# Altium footprint library pins.PcbLib: 69 footprints (part 3 of 5)
Each footprint in its own frame and in the unit in brackets; x right, y up, seen from the top. Pads: shape width x height; smd on the part's side, far side on the other; paste and mask are expansions set on the pad; w line width, h text height; cw(c..) or ccw(c..) is an arc to the next point about the centre after c.
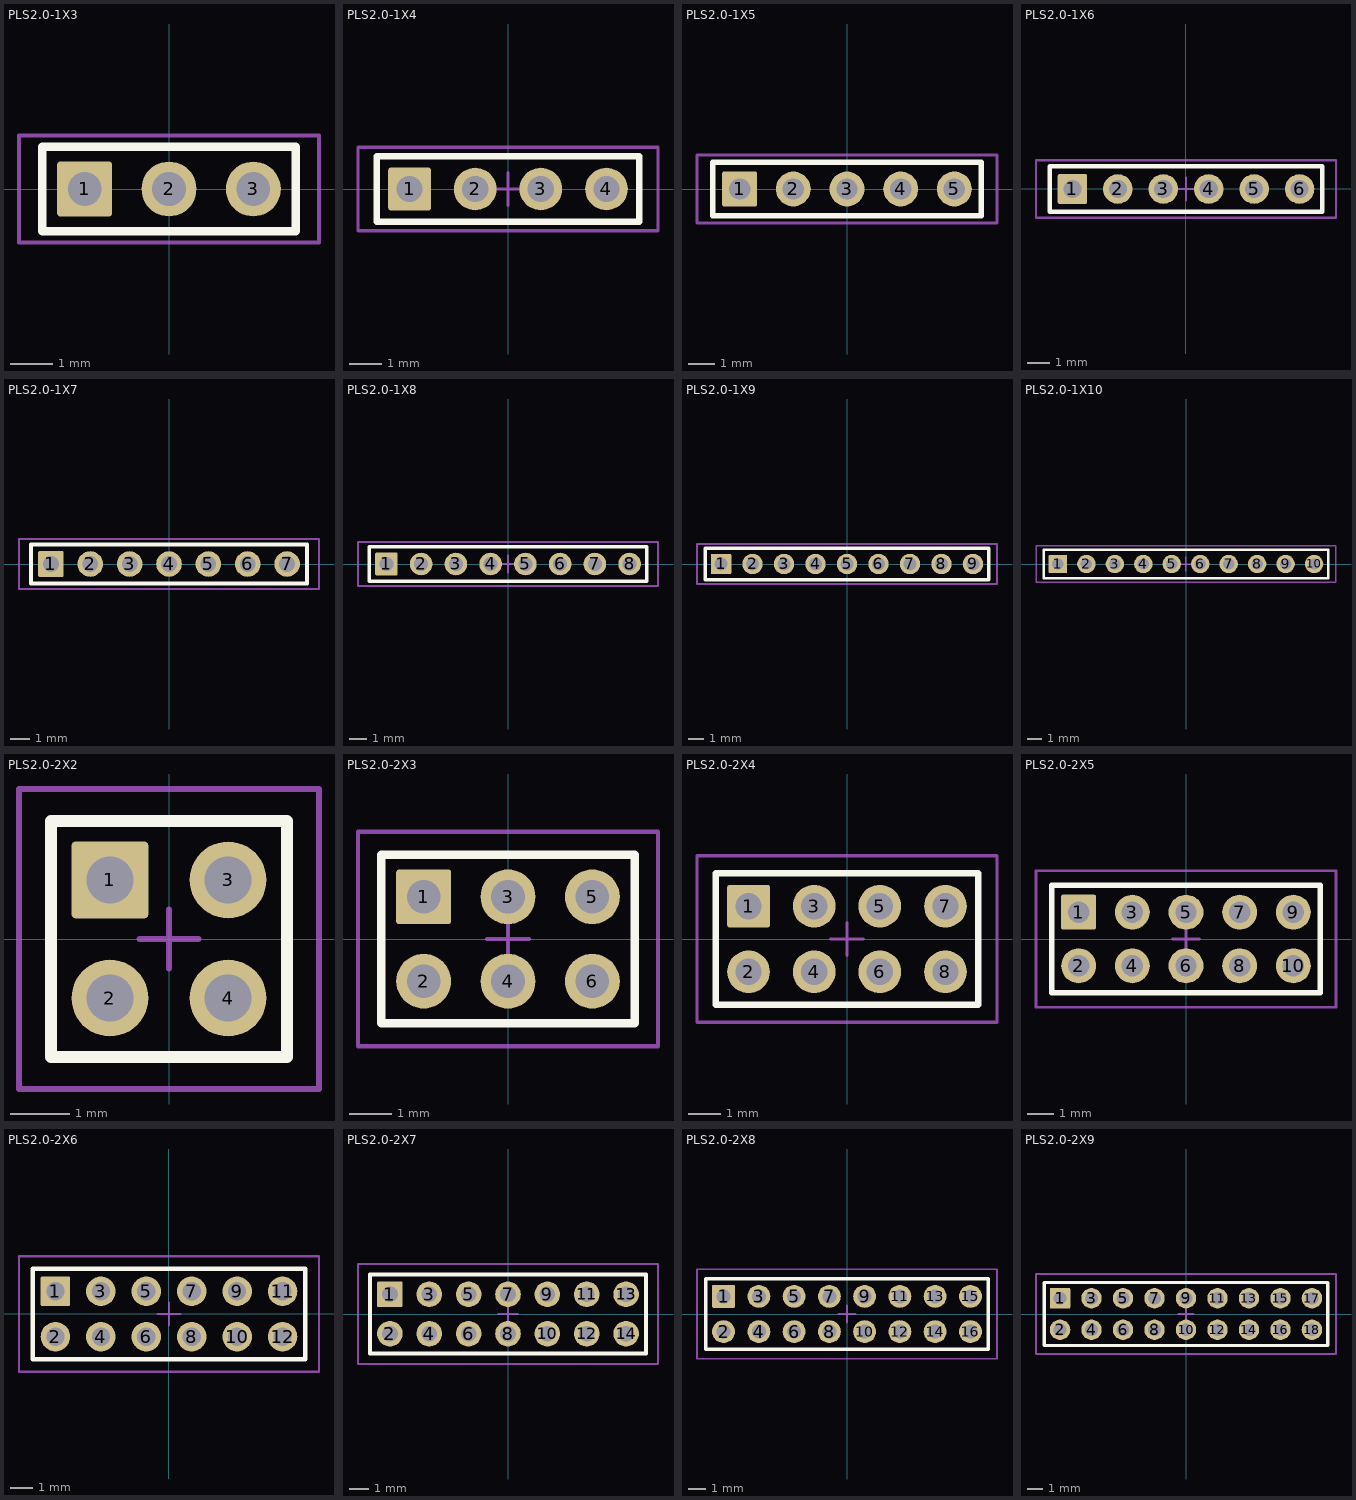
[diagram p2: the footprints below, top view; thin cyan lines are the x and y axes]

## PLS2.0-1X3 [mm]
pads (3):
  rrect10% 1.3x1.3 hole 0.8: 1(-2,0)
  round 1.3 hole 0.8: 2(0,0) 3(2,0)
Top Overlay:
  lines w0.2: -3,-1 3,-1 3,1 -3,1 -3,-1
Mechanical 13:
  lines w0.1: -3.556,-1.27 -3.556,1.27 3.556,1.27 3.556,-1.27 -3.556,-1.27
  text ".Designator" at -1.016,-0.639 h1.2
Mechanical 15:
  lines w0.05: -3.556,-1.27 -3.556,1.27 3.556,1.27 3.556,-1.27 -3.556,-1.27
  lines w0.1: -0.5,0 0.5,0 ; 0,-0.5 0,0.5
3D body: height 1, standoff 0, extent -3,-1 3,1
3D body: height 6.5, standoff -2.7, extent 1.746,-0.254 2.254,0.254
3D body: height 6.5, standoff -2.7, extent -0.254,-0.254 0.254,0.254
3D body: height 6.5, standoff -2.7, extent -2.254,-0.254 -1.746,0.254

## PLS2.0-1X4 [mm]
pads (4):
  rrect10% 1.3x1.3 hole 0.8: 1(-3,0)
  round 1.3 hole 0.8: 2(-1,0) 3(1,0) 4(3,0)
Top Overlay:
  lines w0.2: -4,-1 4,-1 4,1 -4,1 -4,-1
Mechanical 13:
  lines w0.1: -4.572,-1.27 4.572,-1.27 4.572,1.27 -4.572,1.27 -4.572,-1.27
  text ".Designator" at -1.016,-0.639 h1.2
Mechanical 15:
  lines w0.05: -4.572,-1.27 4.572,-1.27 4.572,1.27 -4.572,1.27 -4.572,-1.27
  lines w0.1: -0.5,0 0.5,0 ; 0,-0.5 0,0.5
3D body: height 1, standoff 0, extent -4,-1 4,1
3D body: height 6.5, standoff -2.7, extent 2.746,-0.254 3.254,0.254
3D body: height 6.5, standoff -2.7, extent 0.746,-0.254 1.254,0.254
3D body: height 6.5, standoff -2.7, extent -1.254,-0.254 -0.746,0.254
3D body: height 6.5, standoff -2.7, extent -3.254,-0.254 -2.746,0.254

## PLS2.0-1X5 [mm]
pads (5):
  rrect10% 1.3x1.3 hole 0.8: 1(-4,0)
  round 1.3 hole 0.8: 2(-2,0) 3(0,0) 4(2,0) 5(4,0)
Top Overlay:
  lines w0.2: -5,-1 -5,1 5,1 5,-1 -5,-1
Mechanical 13:
  lines w0.1: -5.588,-1.27 -5.588,1.27 5.588,1.27 5.588,-1.27 -5.588,-1.27
  text ".Designator" at -1.016,-0.639 h1.2
Mechanical 15:
  lines w0.05: -5.588,-1.27 -5.588,1.27 5.588,1.27 5.588,-1.27 -5.588,-1.27
  lines w0.1: -0.5,0 0.5,0 ; 0,-0.5 0,0.5
3D body: height 1, standoff 0, extent -5,-1 5,1
3D body: height 6.5, standoff -2.7, extent 3.746,-0.254 4.254,0.254
3D body: height 6.5, standoff -2.7, extent 1.746,-0.254 2.254,0.254
3D body: height 6.5, standoff -2.7, extent -0.254,-0.254 0.254,0.254
3D body: height 6.5, standoff -2.7, extent -2.254,-0.254 -1.746,0.254
3D body: height 6.5, standoff -2.7, extent -4.254,-0.254 -3.746,0.254

## PLS2.0-1X6 [mm]
pads (6):
  rrect10% 1.3x1.3 hole 0.8: 1(-5,0)
  round 1.3 hole 0.8: 2(-3,0) 3(-1,0) 4(1,0) 5(3,0) 6(5,0)
Top Overlay:
  lines w0.2: -6,-1 6,-1 6,1 -6,1 -6,-1
Mechanical 13:
  lines w0.1: -6.604,-1.27 6.604,-1.27 6.604,1.27 -6.604,1.27 -6.604,-1.27
  text ".Designator" at -0.762,-0.639 h1.2
Mechanical 15:
  lines w0.05: -6.604,-1.27 -6.604,1.27 6.604,1.27 6.604,-1.27 -6.604,-1.27
  lines w0.1: -0.5,0 0.5,0 ; 0,-0.5 0,0.5
3D body: height 6.5, standoff -2.7, extent -5.254,-0.254 -4.746,0.254
3D body: height 6.5, standoff -2.7, extent -3.254,-0.254 -2.746,0.254
3D body: height 6.5, standoff -2.7, extent -1.254,-0.254 -0.746,0.254
3D body: height 6.5, standoff -2.7, extent 0.746,-0.254 1.254,0.254
3D body: height 6.5, standoff -2.7, extent 2.746,-0.254 3.254,0.254
3D body: height 6.5, standoff -2.7, extent 4.746,-0.254 5.254,0.254
3D body: height 1, standoff 0, extent -6,-1 6,1

## PLS2.0-1X7 [mm]
pads (7):
  rrect10% 1.3x1.3 hole 0.8: 1(-6,0)
  round 1.3 hole 0.8: 2(-4,0) 3(-2,0) 4(0,0) 5(2,0) 6(4,0) 7(6,0)
Top Overlay:
  lines w0.2: -7,-1 -7,1 7,1 7,-1 -7,-1
Mechanical 13:
  lines w0.1: -7.62,-1.27 7.62,-1.27 7.62,1.27 -7.62,1.27 -7.62,-1.27
  text ".Designator" at -0.762,-0.639 h1.2
Mechanical 15:
  lines w0.05: -7.62,-1.27 7.62,-1.27 7.62,1.27 -7.62,1.27 -7.62,-1.27
  lines w0.1: -0.5,0 0.5,0 ; 0,-0.5 0,0.5
3D body: height 6.5, standoff -2.7, extent -6.254,-0.254 -5.746,0.254
3D body: height 6.5, standoff -2.7, extent -4.254,-0.254 -3.746,0.254
3D body: height 6.5, standoff -2.7, extent -2.254,-0.254 -1.746,0.254
3D body: height 6.5, standoff -2.7, extent -0.254,-0.254 0.254,0.254
3D body: height 6.5, standoff -2.7, extent 1.746,-0.254 2.254,0.254
3D body: height 6.5, standoff -2.7, extent 3.746,-0.254 4.254,0.254
3D body: height 6.5, standoff -2.7, extent 5.746,-0.254 6.254,0.254
3D body: height 1, standoff 0, extent -7,-1 7,1

## PLS2.0-1X8 [mm]
pads (8):
  rrect10% 1.3x1.3 hole 0.8: 1(-7,0)
  round 1.3 hole 0.8: 2(-5,0) 3(-3,0) 4(-1,0) 5(1,0) 6(3,0) 7(5,0) 8(7,0)
Top Overlay:
  lines w0.2: -8,-1 8,-1 8,1 -8,1 -8,-1
Mechanical 13:
  lines w0.1: -8.636,-1.27 -8.636,1.27 8.636,1.27 8.636,-1.27 -8.636,-1.27
  text ".Designator" at -0.762,-0.639 h1.2
Mechanical 15:
  lines w0.05: -8.636,-1.27 8.636,-1.27 8.636,1.27 -8.636,1.27 -8.636,-1.27
  lines w0.1: -0.5,0 0.5,0 ; 0,-0.5 0,0.5
3D body: height 6.5, standoff -2.7, extent -7.254,-0.254 -6.746,0.254
3D body: height 6.5, standoff -2.7, extent -5.254,-0.254 -4.746,0.254
3D body: height 6.5, standoff -2.7, extent -3.254,-0.254 -2.746,0.254
3D body: height 6.5, standoff -2.7, extent -1.254,-0.254 -0.746,0.254
3D body: height 6.5, standoff -2.7, extent 0.746,-0.254 1.254,0.254
3D body: height 6.5, standoff -2.7, extent 2.746,-0.254 3.254,0.254
3D body: height 6.5, standoff -2.7, extent 4.746,-0.254 5.254,0.254
3D body: height 6.5, standoff -2.7, extent 6.746,-0.254 7.254,0.254
3D body: height 1, standoff 0, extent -8,-1 8,1

## PLS2.0-1X9 [mm]
pads (9):
  rrect10% 1.3x1.3 hole 0.8: 1(-8,0)
  round 1.3 hole 0.8: 2(-6,0) 3(-4,0) 4(-2,0) 5(0,0) 6(2,0) 7(4,0) 8(6,0) 9(8,0)
Top Overlay:
  lines w0.2: -9,-1 -9,1 9,1 9,-1 -9,-1
Mechanical 13:
  lines w0.1: -9.525,-1.27 9.525,-1.27 9.525,1.27 -9.525,1.27 -9.525,-1.27
  text ".Designator" at -0.762,-0.639 h1.2
Mechanical 15:
  lines w0.05: -9.525,-1.27 -9.525,1.27 9.525,1.27 9.525,-1.27 -9.525,-1.27
  lines w0.1: -0.5,0 0.5,0 ; 0,-0.5 0,0.5
3D body: height 1, standoff 0, extent -9,-1 9,1
3D body: height 6.5, standoff -2.7, extent 7.746,-0.254 8.254,0.254
3D body: height 6.5, standoff -2.7, extent 5.746,-0.254 6.254,0.254
3D body: height 6.5, standoff -2.7, extent 3.746,-0.254 4.254,0.254
3D body: height 6.5, standoff -2.7, extent 1.746,-0.254 2.254,0.254
3D body: height 6.5, standoff -2.7, extent -0.254,-0.254 0.254,0.254
3D body: height 6.5, standoff -2.7, extent -2.254,-0.254 -1.746,0.254
3D body: height 6.5, standoff -2.7, extent -4.254,-0.254 -3.746,0.254
3D body: height 6.5, standoff -2.7, extent -6.254,-0.254 -5.746,0.254
3D body: height 6.5, standoff -2.7, extent -8.254,-0.254 -7.746,0.254

## PLS2.0-1X10 [mm]
pads (10):
  rrect10% 1.3x1.3 hole 0.8: 1(-9,0)
  round 1.3 hole 0.8: 2(-7,0) 3(-5,0) 4(-3,0) 5(-1,0) 6(1,0) 7(3,0) 8(5,0) 9(7,0) 10(9,0)
Top Overlay:
  lines w0.2: -10,-1 -10,1 10,1 10,-1 -10,-1
Mechanical 13:
  lines w0.1: -10.541,-1.27 10.541,-1.27 10.541,1.27 -10.541,1.27 -10.541,-1.27
  text ".Designator" at -0.762,-0.639 h1.2
Mechanical 15:
  lines w0.05: -10.541,-1.27 -10.541,1.27 10.541,1.27 10.541,-1.27 -10.541,-1.27
  lines w0.1: -0.5,0 0.5,0 ; 0,-0.5 0,0.5
3D body: height 1, standoff 0, extent -10,-1 10,1
3D body: height 6.5, standoff -2.7, extent 8.746,-0.254 9.254,0.254
3D body: height 6.5, standoff -2.7, extent 6.746,-0.254 7.254,0.254
3D body: height 6.5, standoff -2.7, extent 4.746,-0.254 5.254,0.254
3D body: height 6.5, standoff -2.7, extent 2.746,-0.254 3.254,0.254
3D body: height 6.5, standoff -2.7, extent 0.746,-0.254 1.254,0.254
3D body: height 6.5, standoff -2.7, extent -1.254,-0.254 -0.746,0.254
3D body: height 6.5, standoff -2.7, extent -3.254,-0.254 -2.746,0.254
3D body: height 6.5, standoff -2.7, extent -5.254,-0.254 -4.746,0.254
3D body: height 6.5, standoff -2.7, extent -7.254,-0.254 -6.746,0.254
3D body: height 6.5, standoff -2.7, extent -9.254,-0.254 -8.746,0.254

## PLS2.0-2X2 [mm]
pads (4):
  rrect10% 1.3x1.3 hole 0.8: 1(-1,1)
  round 1.3 hole 0.8: 2(-1,-1) 3(1,1) 4(1,-1)
Top Overlay:
  lines w0.2: -2,-2 2,-2 2,2 -2,2 -2,-2
Mechanical 13:
  lines w0.1: -2.54,-2.54 -2.54,2.54 2.54,2.54 2.54,-2.54 -2.54,-2.54
  text ".Designator" at -1.016,-0.639 h1.4
Mechanical 15:
  lines w0.05: -2.54,-2.54 2.54,-2.54 2.54,2.54 -2.54,2.54 -2.54,-2.54
  lines w0.1: -0.5,0 0.5,0 ; 0,-0.5 0,0.5
3D body: height 1, standoff 0, extent -2,0 2,2
3D body: height 1, standoff 0, extent -2,-2 2,0
3D body: height 6.5, standoff -2.7, extent 0.746,0.746 1.254,1.254
3D body: height 6.5, standoff -2.7, extent -1.254,0.746 -0.746,1.254
3D body: height 6.5, standoff -2.7, extent 0.746,-1.254 1.254,-0.746
3D body: height 6.5, standoff -2.7, extent -1.254,-1.254 -0.746,-0.746

## PLS2.0-2X3 [mm]
pads (6):
  rrect10% 1.3x1.3 hole 0.8: 1(-2,1)
  round 1.3 hole 0.8: 2(-2,-1) 3(0,1) 4(0,-1) 5(2,1) 6(2,-1)
Top Overlay:
  lines w0.2: -3,-2 -3,2 3,2 3,-2 -3,-2
Mechanical 13:
  lines w0.1: -3.556,-2.54 -3.556,2.54 3.556,2.54 3.556,-2.54 -3.556,-2.54
  text ".Designator" at -1.016,-0.762 h1.5
Mechanical 15:
  lines w0.05: -3.556,-2.54 3.556,-2.54 3.556,2.54 -3.556,2.54 -3.556,-2.54
  lines w0.1: -0.5,0 0.5,0 ; 0,-0.5 0,0.5
3D body: height 1, standoff 0, extent -3,0 3,2
3D body: height 1, standoff 0, extent -3,-2 3,0
3D body: height 6.5, standoff -2.7, extent 1.746,-1.254 2.254,-0.746
3D body: height 6.5, standoff -2.7, extent -0.254,-1.254 0.254,-0.746
3D body: height 6.5, standoff -2.7, extent -2.254,-1.254 -1.746,-0.746
3D body: height 6.5, standoff -2.7, extent 1.746,0.746 2.254,1.254
3D body: height 6.5, standoff -2.7, extent -0.254,0.746 0.254,1.254
3D body: height 6.5, standoff -2.7, extent -2.254,0.746 -1.746,1.254

## PLS2.0-2X4 [mm]
pads (8):
  rrect10% 1.3x1.3 hole 0.8: 1(-3,1)
  round 1.3 hole 0.8: 2(-3,-1) 3(-1,1) 4(-1,-1) 5(1,1) 6(1,-1) 7(3,1) 8(3,-1)
Top Overlay:
  lines w0.2: -4,-2 -4,2 4,2 4,-2 -4,-2
Mechanical 13:
  lines w0.1: -4.572,-2.54 -4.572,2.54 4.572,2.54 4.572,-2.54 -4.572,-2.54
  text ".Designator" at -1.016,-0.762 h1.5
Mechanical 15:
  lines w0.05: -4.572,-2.54 4.572,-2.54 4.572,2.54 -4.572,2.54 -4.572,-2.54
  lines w0.1: -0.5,0 0.5,0 ; 0,-0.5 0,0.5
3D body: height 1, standoff 0, extent -4,0 4,2
3D body: height 1, standoff 0, extent -4,-2 4,0
3D body: height 6.5, standoff -2.7, extent 2.746,-1.254 3.254,-0.746
3D body: height 6.5, standoff -2.7, extent 0.746,-1.254 1.254,-0.746
3D body: height 6.5, standoff -2.7, extent -1.254,-1.254 -0.746,-0.746
3D body: height 6.5, standoff -2.7, extent -3.254,-1.254 -2.746,-0.746
3D body: height 6.5, standoff -2.7, extent 2.746,0.746 3.254,1.254
3D body: height 6.5, standoff -2.7, extent 0.746,0.746 1.254,1.254
3D body: height 6.5, standoff -2.7, extent -1.254,0.746 -0.746,1.254
3D body: height 6.5, standoff -2.7, extent -3.254,0.746 -2.746,1.254

## PLS2.0-2X5 [mm]
pads (10):
  rrect10% 1.3x1.3 hole 0.8: 1(-4,1)
  round 1.3 hole 0.8: 2(-4,-1) 3(-2,1) 4(-2,-1) 5(0,1) 6(0,-1) 7(2,1) 8(2,-1) 9(4,1) 10(4,-1)
Top Overlay:
  lines w0.2: -5,-2 -5,2 5,2 5,-2 -5,-2
Mechanical 13:
  lines w0.1: -5.588,-2.54 5.588,-2.54 5.588,2.54 -5.588,2.54 -5.588,-2.54
  text ".Designator" at -1.016,-0.762 h1.5
Mechanical 15:
  lines w0.05: -5.588,-2.54 5.588,-2.54 5.588,2.54 -5.588,2.54 -5.588,-2.54
  lines w0.1: -0.5,0 0.5,0 ; 0,-0.5 0,0.5
3D body: height 1, standoff 0, extent -5,-2 5,0
3D body: height 1, standoff 0, extent -5,0 5,2
3D body: height 6.5, standoff -2.7, extent 3.746,-1.254 4.254,-0.746
3D body: height 6.5, standoff -2.7, extent 1.746,-1.254 2.254,-0.746
3D body: height 6.5, standoff -2.7, extent -0.254,-1.254 0.254,-0.746
3D body: height 6.5, standoff -2.7, extent -2.254,-1.254 -1.746,-0.746
3D body: height 6.5, standoff -2.7, extent -4.254,-1.254 -3.746,-0.746
3D body: height 6.5, standoff -2.7, extent 3.746,0.746 4.254,1.254
3D body: height 6.5, standoff -2.7, extent 1.746,0.746 2.254,1.254
3D body: height 6.5, standoff -2.7, extent -0.254,0.746 0.254,1.254
3D body: height 6.5, standoff -2.7, extent -2.254,0.746 -1.746,1.254
3D body: height 6.5, standoff -2.7, extent -4.254,0.746 -3.746,1.254

## PLS2.0-2X6 [mm]
pads (12):
  rrect10% 1.3x1.3 hole 0.8: 1(-5,1)
  round 1.3 hole 0.8: 2(-5,-1) 3(-3,1) 4(-3,-1) 5(-1,1) 6(-1,-1) 7(1,1) 8(1,-1) 9(3,1) 10(3,-1) 11(5,1) 12(5,-1)
Top Overlay:
  lines w0.2: -6,-2 6,-2 6,2 -6,2 -6,-2
Mechanical 13:
  lines w0.1: -6.604,-2.54 -6.604,2.54 6.604,2.54 6.604,-2.54 -6.604,-2.54
  text ".Designator" at -1.016,-0.762 h1.5
Mechanical 15:
  lines w0.05: -6.604,-2.54 6.604,-2.54 6.604,2.54 -6.604,2.54 -6.604,-2.54
  lines w0.1: -0.5,0 0.5,0 ; 0,-0.5 0,0.5
3D body: height 6.5, standoff -2.7, extent -5.254,0.746 -4.746,1.254
3D body: height 6.5, standoff -2.7, extent -3.254,0.746 -2.746,1.254
3D body: height 6.5, standoff -2.7, extent -1.254,0.746 -0.746,1.254
3D body: height 6.5, standoff -2.7, extent 0.746,0.746 1.254,1.254
3D body: height 6.5, standoff -2.7, extent 2.746,0.746 3.254,1.254
3D body: height 6.5, standoff -2.7, extent 4.746,0.746 5.254,1.254
3D body: height 6.5, standoff -2.7, extent -5.254,-1.254 -4.746,-0.746
3D body: height 6.5, standoff -2.7, extent -3.254,-1.254 -2.746,-0.746
3D body: height 6.5, standoff -2.7, extent -1.254,-1.254 -0.746,-0.746
3D body: height 6.5, standoff -2.7, extent 0.746,-1.254 1.254,-0.746
3D body: height 6.5, standoff -2.7, extent 2.746,-1.254 3.254,-0.746
3D body: height 6.5, standoff -2.7, extent 4.746,-1.254 5.254,-0.746
3D body: height 1, standoff 0, extent -6,0 6,2
3D body: height 1, standoff 0, extent -6,-2 6,0

## PLS2.0-2X7 [mm]
pads (14):
  rrect10% 1.3x1.3 hole 0.8: 1(-6,1)
  round 1.3 hole 0.8: 2(-6,-1) 3(-4,1) 4(-4,-1) 5(-2,1) 6(-2,-1) 7(0,1) 8(0,-1) 9(2,1) 10(2,-1) 11(4,1) 12(4,-1) 13(6,1) 14(6,-1)
Top Overlay:
  lines w0.2: -7,-2 7,-2 7,2 -7,2 -7,-2
Mechanical 13:
  lines w0.1: -7.62,-2.54 -7.62,2.54 7.62,2.54 7.62,-2.54 -7.62,-2.54
  text ".Designator" at -1.016,-0.762 h1.5
Mechanical 15:
  lines w0.05: -7.62,-2.54 -7.62,2.54 7.62,2.54 7.62,-2.54 -7.62,-2.54
  lines w0.1: -0.5,0 0.5,0 ; 0,-0.5 0,0.5
3D body: height 1, standoff 0, extent -7,0 7,2
3D body: height 1, standoff 0, extent -7,-2 7,0
3D body: height 6.5, standoff -2.7, extent 5.746,-1.254 6.254,-0.746
3D body: height 6.5, standoff -2.7, extent 3.746,-1.254 4.254,-0.746
3D body: height 6.5, standoff -2.7, extent 1.746,-1.254 2.254,-0.746
3D body: height 6.5, standoff -2.7, extent -0.254,-1.254 0.254,-0.746
3D body: height 6.5, standoff -2.7, extent -2.254,-1.254 -1.746,-0.746
3D body: height 6.5, standoff -2.7, extent -4.254,-1.254 -3.746,-0.746
3D body: height 6.5, standoff -2.7, extent -6.254,-1.254 -5.746,-0.746
3D body: height 6.5, standoff -2.7, extent 5.746,0.746 6.254,1.254
3D body: height 6.5, standoff -2.7, extent 3.746,0.746 4.254,1.254
3D body: height 6.5, standoff -2.7, extent 1.746,0.746 2.254,1.254
3D body: height 6.5, standoff -2.7, extent -0.254,0.746 0.254,1.254
3D body: height 6.5, standoff -2.7, extent -2.254,0.746 -1.746,1.254
3D body: height 6.5, standoff -2.7, extent -4.254,0.746 -3.746,1.254
3D body: height 6.5, standoff -2.7, extent -6.254,0.746 -5.746,1.254

## PLS2.0-2X8 [mm]
pads (16):
  rrect10% 1.3x1.3 hole 0.8: 1(-7,1)
  round 1.3 hole 0.8: 2(-7,-1) 3(-5,1) 4(-5,-1) 5(-3,1) 6(-3,-1) 7(-1,1) 8(-1,-1) 9(1,1) 10(1,-1) 11(3,1) 12(3,-1) 13(5,1) 14(5,-1) 15(7,1) 16(7,-1)
Top Overlay:
  lines w0.2: -8,-2 -8,2 8,2 8,-2 -8,-2
Mechanical 13:
  lines w0.1: -8.509,-2.54 -8.509,2.54 8.509,2.54 8.509,-2.54 -8.509,-2.54
  text ".Designator" at -1.016,-0.762 h1.5
Mechanical 15:
  lines w0.05: -8.509,-2.54 8.509,-2.54 8.509,2.54 -8.509,2.54 -8.509,-2.54
  lines w0.1: -0.5,0 0.5,0 ; 0,-0.5 0,0.5
3D body: height 6.5, standoff -2.7, extent -7.254,0.746 -6.746,1.254
3D body: height 6.5, standoff -2.7, extent -5.254,0.746 -4.746,1.254
3D body: height 6.5, standoff -2.7, extent -3.254,0.746 -2.746,1.254
3D body: height 6.5, standoff -2.7, extent -1.254,0.746 -0.746,1.254
3D body: height 6.5, standoff -2.7, extent 0.746,0.746 1.254,1.254
3D body: height 6.5, standoff -2.7, extent 2.746,0.746 3.254,1.254
3D body: height 6.5, standoff -2.7, extent 4.746,0.746 5.254,1.254
3D body: height 6.5, standoff -2.7, extent 6.746,0.746 7.254,1.254
3D body: height 6.5, standoff -2.7, extent -7.254,-1.254 -6.746,-0.746
3D body: height 6.5, standoff -2.7, extent -5.254,-1.254 -4.746,-0.746
3D body: height 6.5, standoff -2.7, extent -3.254,-1.254 -2.746,-0.746
3D body: height 6.5, standoff -2.7, extent -1.254,-1.254 -0.746,-0.746
3D body: height 6.5, standoff -2.7, extent 0.746,-1.254 1.254,-0.746
3D body: height 6.5, standoff -2.7, extent 2.746,-1.254 3.254,-0.746
3D body: height 6.5, standoff -2.7, extent 4.746,-1.254 5.254,-0.746
3D body: height 6.5, standoff -2.7, extent 6.746,-1.254 7.254,-0.746
3D body: height 1, standoff 0, extent -8,-2 8,0
3D body: height 1, standoff 0, extent -8,0 8,2

## PLS2.0-2X9 [mm]
pads (18):
  rrect10% 1.3x1.3 hole 0.8: 1(-8,1)
  round 1.3 hole 0.8: 2(-8,-1) 3(-6,1) 4(-6,-1) 5(-4,1) 6(-4,-1) 7(-2,1) 8(-2,-1) 9(0,1) 10(0,-1) 11(2,1) 12(2,-1) 13(4,1) 14(4,-1) 15(6,1) 16(6,-1) 17(8,1) 18(8,-1)
Top Overlay:
  lines w0.2: -9,-2 9,-2 9,2 -9,2 -9,-2
Mechanical 13:
  lines w0.1: -9.525,-2.54 9.525,-2.54 9.525,2.54 -9.525,2.54 -9.525,-2.54
  text ".Designator" at -1.016,-0.762 h1.5
Mechanical 15:
  lines w0.05: -9.525,-2.54 -9.525,2.54 9.525,2.54 9.525,-2.54 -9.525,-2.54
  lines w0.1: -0.5,0 0.5,0 ; 0,-0.5 0,0.5
3D body: height 6.5, standoff -2.7, extent -8.254,0.746 -7.746,1.254
3D body: height 6.5, standoff -2.7, extent -6.254,0.746 -5.746,1.254
3D body: height 6.5, standoff -2.7, extent -4.254,0.746 -3.746,1.254
3D body: height 6.5, standoff -2.7, extent -2.254,0.746 -1.746,1.254
3D body: height 6.5, standoff -2.7, extent -0.254,0.746 0.254,1.254
3D body: height 6.5, standoff -2.7, extent 1.746,0.746 2.254,1.254
3D body: height 6.5, standoff -2.7, extent 3.746,0.746 4.254,1.254
3D body: height 6.5, standoff -2.7, extent 5.746,0.746 6.254,1.254
3D body: height 6.5, standoff -2.7, extent 7.746,0.746 8.254,1.254
3D body: height 6.5, standoff -2.7, extent -8.254,-1.254 -7.746,-0.746
3D body: height 6.5, standoff -2.7, extent -6.254,-1.254 -5.746,-0.746
3D body: height 6.5, standoff -2.7, extent -4.254,-1.254 -3.746,-0.746
3D body: height 6.5, standoff -2.7, extent -2.254,-1.254 -1.746,-0.746
3D body: height 6.5, standoff -2.7, extent -0.254,-1.254 0.254,-0.746
3D body: height 6.5, standoff -2.7, extent 1.746,-1.254 2.254,-0.746
3D body: height 6.5, standoff -2.7, extent 3.746,-1.254 4.254,-0.746
3D body: height 6.5, standoff -2.7, extent 5.746,-1.254 6.254,-0.746
3D body: height 6.5, standoff -2.7, extent 7.746,-1.254 8.254,-0.746
3D body: height 1, standoff 0, extent -9,0 9,2
3D body: height 1, standoff 0, extent -9,-2 9,0